# EAGLE library part HDC1000 (library HDC1000)
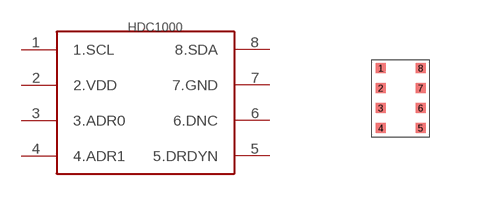
[diagram p0: symbol with the pads of HDC1000; footprint HDC1000]

Designator prefix -

## HDC1000  [HDC1000]
1  1.SCL
2  2.VDD
3  3.ADR0
4  4.ADR1
5  5.DRDYN
6  6.DNC
7  7.GND
8  8.SDA

## Footprint HDC1000 (pad centres in mm)
smd 0.25 x 0.25: 1 0,0; 2 0,-0.5; 3 0,-1; 4 0,-1.5; 5 1,-1.5; 6 1,-1; 7 1,-0.5; 8 1,0